# Altium schematic symbol library Bauteile.SchLib: 17 symbols
Pins are listed as number, name and electrical type; pins without a type are passive.

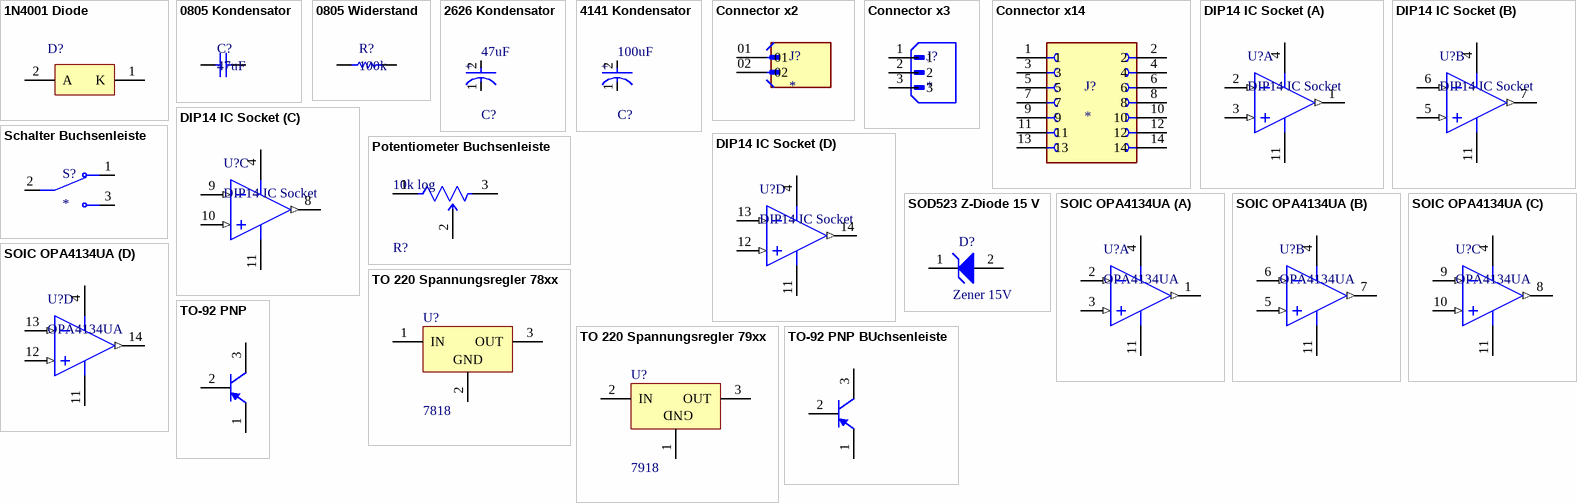
[diagram p0: symbols 1N4001 Diode to TO-92 PNP BUchsenleiste]

## 1N4001 Diode
designator D?
Standard Recovery Rectifier, 2-Pin Axial_Lead, Pb-Free, Bulk Bag; PartNumber: 1N4001; Manufacturer: On Semiconductor; VRRM Max (V): 50; IFSM Max (A): 30; IO(rec) Max (A): 1; ComponentLink3URL: http://www.onsemi.cn/pub_link/Collateral/59-10.PDF; ComponentLink3Description: Package Specification; PackageVersion: Rev. U, 02/2005; Packing: Bulk Bag; ComponentLink2Description: Datasheet; RoHS: TRUE; DatasheetVersion: Rev. 13; PackageReference: AXIAL_LEAD-2-59-10; ComponentLink1URL: http://www.onsemi.com/; Mounting Technology: Through Hole; PackageDescription: 2-Pin, Axial Lead, Diameter 2.35 mm; ComponentLink2URL: http://www.onsemi.com/pub_link/Collateral/1N4001-D.PDF; Type: Standard Recovery; ComponentLink1Description: Manufacturer URL
footprint 1N4001 Diode (AXIAL, 2-Leads, Diameter 2.35mm)
pins: 1 K, 2 A

## 0805 Kondensator
designator C?, comment 47uF
0805 Kondensator; Value: 47uF
footprint 0805
pins: 1, 2

## 0805 Widerstand
designator R?, comment 100k
0805 Widerstand; Value: 100k
footprint 0805
pins: 1, 2

## 2626 Kondensator
designator C?, comment 47uF
2626 Kondensator d=6.6mm; Ripple Current: 2.8A; Voltage: 25V; Polarity: Polar; Leakage Current: 235uA; Tolerance: 20%; Dissipation Factor: 12%; ESR (Equivalent Series Resistance): 30mR; Life (Hours): 5000Hour; Diameter: 6.3mm; Package Quantity: 1000; Packaging: Tape and Reel; Height - Seated (Max): 0.236inch; Case/Package: Radial; Termination: SMD/SMT; Series: OS-CON™, SVPF; Number of Pins: 6; Value: 47uF; Min Operating Temperature: -55°C; Mount: Surface Mount; RoHS Compliant: Yes; Voltage Rating (DC): 25V; Length: 5.9mm; REACH SVHC: No SVHC; Voltage Rating: 25V; Ripple Current (AC): 2.8A; Height: 5.9mm; Max Operating Temperature: 105°C
footprint 2626 Kondensator (2626 Kondensator d=6.6mm)
pins: 1 C, 2 A
text: +

## 4141 Kondensator
designator C?, comment 100uF
4141Kondensator; Value: 100uF
footprint 4141 Kondensator
pins: 1 C, 2 A
text: +

## Connector x2
designator J?
Connector Header Through Hole 2 position 0.100 (2.54mm); MF: Wurth Elektronik; MP: 61300211121; SnapEDA_Link: https://www.snapeda.com/parts/61300211121/Wurth+Elektronik/view-part/?ref=snap; Package: None; Value: *; Check_prices: https://www.snapeda.com/parts/61300211121/Wurth+Elektronik/view-part/?ref=eda
footprint Connector x2
pins: 01, 02

## Connector x3
designator J?
Connector Header Through Hole 3 position 0.100 (2.54mm); MF: JST Sales; MP: B3B-XH-A; SnapEDA_Link: https://www.snapeda.com/parts/B3B-XH-A/JST+Sales+America+Inc./view-part/?ref=snap; Package: None; Value: *; Check_prices: https://www.snapeda.com/parts/B3B-XH-A/JST+Sales+America+Inc./view-part/?ref=eda
footprint Connector x3
pins: 1, 2, 3

## Connector x14
designator J?
14 Position Header Connector Through Hole; MF: Sullins Connector; MP: SFH11-PBPC-D07-ST-BK; Value: *; Check_prices: https://www.snapeda.com/parts/SFH11-PBPC-D07-ST-BK/Sullins%20Connector%20Solutions/view-part/851415/?ref=eda; Availability: Warning; Package: None; SnapEDA_Link: https://www.snapeda.com/parts/SFH11-PBPC-D07-ST-BK/Sullins%20Connector%20Solutions/view-part/851415/?ref=snap; Purchase-URL: https://pricing.snapeda.com/search/part/SFH11-PBPC-D07-ST-BK/?ref=eda; Price: None
footprint Connector x14
pins: 1, 2, 3, 4, 5, 6, 7, 8, 9, 10, 11, 12, 13, 14

## DIP14 IC Socket
designator U?
Manufacturer: Texas Instruments; PartNumber: OPA4134UA; Vmax(V): 36; Number of Channels: 4; Iq per channel(Max)(mA): 5; SubFamily: Audio Operational Amplifier; GBW(Typ)(MHz): 8; Eco-Plan: Green (RoHS & no Sb/Br); DatasheetVersion: SBOS058; ComponentLink2URL: http://www.ti.com/general/docs/lit/getliterature.tsp?genericPartNumber=OPA4134&fileType=pdf; ComponentLink1URL: http://www.ti.com/; PackageDescription: 14-Pin Plastic Small Outline, Body 8.65 x 3.9 mm, Pitch 1.27 mm; Vmin(V): 5; ComponentLink2Description: Datasheet; PackageVersion: 4040047-5/M, 06/2011; Code_JEDEC: MS-012; PackageReference: D0014A; ComponentLink1Description: Manufacturer URL; Vn at Flatband(Typ)(nV/rtHz): 8; Mounting Technology: Surface Mount; ComponentLink3URL: http://www.ti.com/lit/ml/mpds177g/mpds177g.pdf; ComponentLink3Description: Package Specification
footprint DIP14 IC Socket (Socket, 14-Leads, Body 17.653x10.0076mm, Pitch 2.54mm)
pins on every part: 4 V+ (power), 11 V- (power)
part A pins: 1 OUT A (out), 2 IN A- (in), 3 IN A+ (in)
part B pins: 5 IN B+ (in), 6 IN B- (in), 7 OUT B (out)
part C pins: 8 OUT C (out), 9 IN C- (in), 10 IN C+ (in)
part D pins: 12 IN D+ (in), 13 IN D- (in), 14 OUT D (out)

## Potentiometer Buchsenleiste
designator R?, comment 10k log
Potentiometer; Value: 10k log
footprint Connector x3
pins: 1 a, 2 b, 3 c

## Schalter Buchsenleiste
designator S?
Toggle Switch SPDT Through Hole; MP: 100SP1T1B4M2QE; Package: None; Price: None; Value: *; Availability: Unavailable
footprint Connector x3
pins: 1, 2, 3

## SOD523 Z-Diode 15 V
designator D?, comment Zener 15V
SOD523 Z-Diode 15 V; Typ: Zener 15V
footprint Z1SMA15 Z-Diode 15V (Molded, 2-Leads, Body 4.32x2.6mm)
pins: 1 K, 2 A

## SOIC OPA4134UA
designator U?, comment OPA4134UA
SoundPlus(TM) High Performance Audio Operational Amplifier, 5 to 36 V, -55 to 125 degC, 14-pin SOIC (D14), Green (RoHS & no Sb/Br); Manufacturer: Texas Instruments; Vmax(V): 36; Number of Channels: 4; Iq per channel(Max)(mA): 5; GBW(Typ)(MHz): 8; DatasheetVersion: SBOS058; ComponentLink2URL: http://www.ti.com/general/docs/lit/getliterature.tsp?genericPartNumber=OPA4134&fileType=pdf; ComponentLink1URL: http://www.ti.com/; PackageDescription: 14-Pin Plastic Small Outline, Body 8.65 x 3.9 mm, Pitch 1.27 mm; SubFamily: Audio Operational Amplifier; Vmin(V): 5; ComponentLink2Description: Datasheet; PackageVersion: 4040047-5/M, 06/2011; Code_JEDEC: MS-012; PackageReference: D0014A; ComponentLink1Description: Manufacturer URL; Vn at Flatband(Typ)(nV/rtHz): 8; Eco-Plan: Green (RoHS & no Sb/Br); Mounting Technology: Surface Mount; ComponentLink3URL: http://www.ti.com/lit/ml/mpds177g/mpds177g.pdf; PartNumber: OPA4134UA; ComponentLink3Description: Package Specification
footprint DIP14 IC Socket (Socket, 14-Leads, Body 17.653x10.0076mm, Pitch 2.54mm)
pins on every part: 4 V+ (power), 11 V- (power)
part A pins: 1 OUT A (out), 2 IN A- (in), 3 IN A+ (in)
part B pins: 5 IN B+ (in), 6 IN B- (in), 7 OUT B (out)
part C pins: 8 OUT C (out), 9 IN C- (in), 10 IN C+ (in)
part D pins: 12 IN D+ (in), 13 IN D- (in), 14 OUT D (out)

## TO 220 Spannungsregler 78xx
designator U?, comment 7818
Voltage Regulator, 3-Pin TO-220; Typ: 7818
footprint TO220 Spannungsregler 78xx (TO, Thru-Hole, Vertical, Heatsink Mounted; 3 In-Line Leads; Pitch 2.54 mm)
pins: 1 IN, 2 GND (power), 3 OUT (power)

## TO 220 Spannungsregler 79xx
designator U?, comment 7918
Voltage Regulator, 3-Pin TO-220; Typ: 7918
footprint TO220 Spannungsregler 79xx (TO, Thru-Hole, Vertical, Heatsink Mounted; 3 In-Line Leads; Pitch 2.54 mm)
pins: 1 GND (power), 2 IN, 3 OUT (power)

## TO-92 PNP
designator Q?, comment PNP  (value not drawn)
TO-92 PNP Bipolar Transistor; Typ: PNP
footprint TO 92 PNP Transistor
pins: 1 E, 2 B, 3 C

## TO-92 PNP BUchsenleiste
designator Q?, comment PNP  (value not drawn)
TO-92 PNP Bipolar Transistor; Typ: PNP
footprint Buchsenleiste 3 Fach PNP TO92 (Buchsenleiste 3 Fach)
pins: 1 E, 2 B, 3 C